# Altium schematic symbol library MOSFET-N-GDS.SchLib: 1 symbol
Pins are listed as number, name and electrical type; pins without a type are passive.

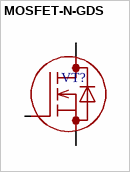
[diagram p0: symbol MOSFET-N-GDS]

## MOSFET-N-GDS
designator VT?
footprint TO-92
footprint SOT23-3
footprint TO-252
footprint TO-220-3
footprint TO-247-3
footprint SOT-223-3
footprint TO-220-3-BEND
footprint TO-126
footprint SOT-89
pins: 1 G, 2 D, 3 S